# Altium footprint library UWB1-85EC.PcbLib: 1 footprints
Each footprint in its own frame and in the unit in brackets; x right, y up, seen from the top. Pads: shape width x height; smd on the part's side, far side on the other; paste and mask are expansions set on the pad; w line width, h text height; cw(c..) or ccw(c..) is an arc to the next point about the centre after c.
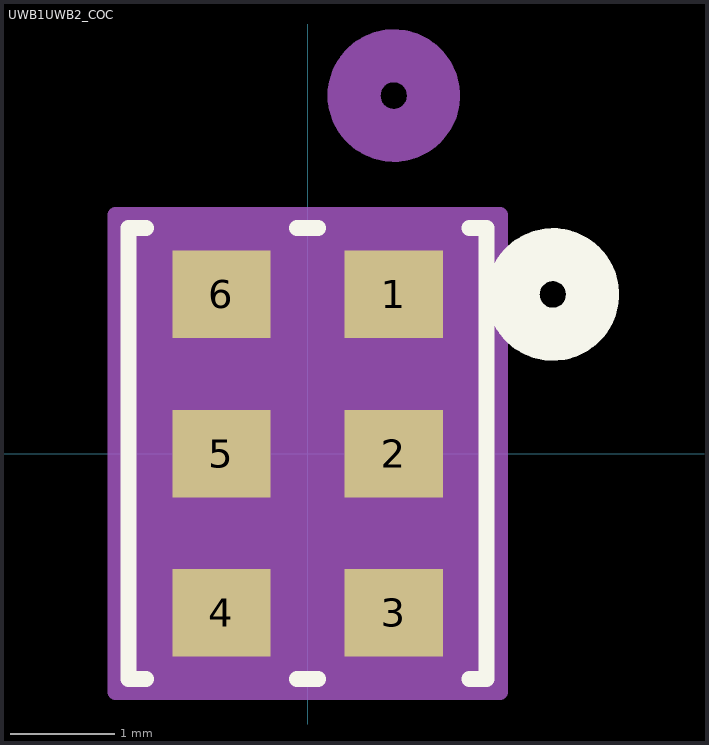
[diagram p0: the footprint, top view; thin cyan lines are the x and y axes]

## UWB1UWB2_COC [mil]
pads (6):
  rect 37x33 smd paste+0 mask+0: 1(32.5,60) 2(32.5,0) 3(32.5,-60) 4(-32.5,-60) 5(-32.5,0) 6(-32.5,60)
Top Overlay:
  circle w20: c92.5,60 r15
  lines w6: -60.97,-85 -67.5,-85 -67.5,85 -60.97,85 ; -4.03,-85 4.03,-85 ; -4.03,85 4.03,85 ; 60.97,-85 67.5,-85 67.5,85 60.97,85
Bottom Overlay:
  circle w20: c92.5,60 r15
Mechanical 13:
  circle w20: c32.5,135 r15
  lines w1: -62.5,-80 62.5,-80 62.5,80 -62.5,80 -62.5,-80
Mechanical 15:
  region: 72.5,90 -72.5,90 -72.5,-90 72.5,-90
  lines w6: -72.5,-90 -72.5,90 72.5,90 72.5,-90 -72.5,-90